# EAGLE library part TI_OPA2300 (library Tristan+Robitaille's+Library)
Texas Instruments 16-Bit CMOS 150MHz Dual-Op Amp Technical Specifications: Bandwidth: 150MHz Input voltage: 2.7V to 5.5V Distortion: 0.003% Current draw: 9.5mA @ 5.5V Shutdown current draw: 5µA Datasheet <http://www.ti.com/lit/ds/symlink/opa2300.pdf> Digi-Key part #: 296-19736-1-ND <http://www.digikey.ca/product-detail/en/texas-instruments/OPA2300AIDGST/296-19736-1-ND/1087476> Mouser part #: 595-OPA2300AIDGSR <http://ca.mouser.com/ProductDetail/Texas-Instruments/OPA2300AIDGSR/?qs=sGAEpiMZZMsko7UDAsUSIch3u%2fkN0pq9rbDE0tJTx9k%3d> Manufacturer part #: OPA2300AIDGST
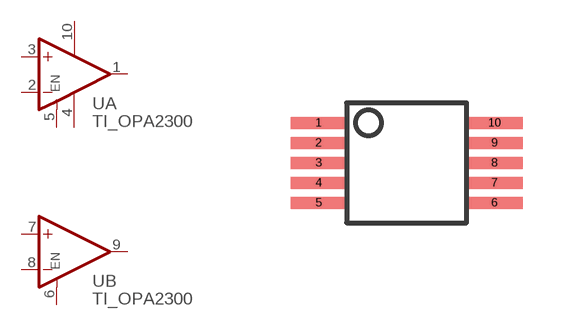
[diagram p20: symbol with the pads of MSOP-10; footprint MSOP-10]

Designator prefix U; gates A=OPAMP_EN B=OPAMP_EN G$3=PWR+-

## TI_OPA2300  [MSOP-10]
1  A:OUT  out
2  A:-IN  in
3  A:+IN  in
4  G$3:V-  pwr
5  A:EN  in
6  B:EN  in
7  B:+IN  in
8  B:-IN  in
9  B:OUT  out
10  G$3:V+  pwr

## Footprint MSOP-10 (pad centres in mm)
smd 1.4 x 0.3: 1 -2.2,1; 2 -2.2,0.5; 3 -2.2,0; 4 -2.2,-0.5; 5 -2.2,-1; 6 2.2,-1; 7 2.2,-0.5; 8 2.2,0; 9 2.2,0.5; 10 2.2,1